# EAGLE library part MPU9150_BREAKOUT (library freBotLib)
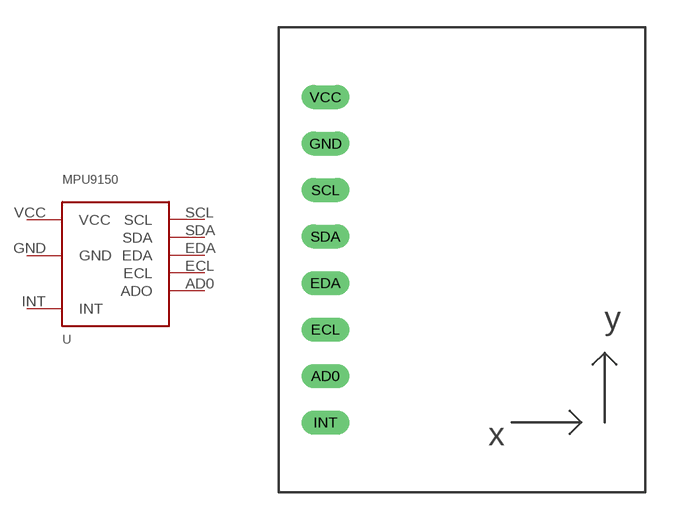
[diagram p0: symbol with the pads of MPU9150_BREAKOUT; footprint MPU9150_BREAKOUT]

Designator prefix -

## MPU9150_BREAKOUT  [MPU9150_BREAKOUT]
AD0  ADO
ECL  ECL
EDA  EDA
GND  GND
INT  INT
SCL  SCL
SDA  SDA
VCC  VCC

## Footprint MPU9150_BREAKOUT (pad centres in mm)
drill 0.813 long: AD0 2.54,6.35; ECL 2.54,8.89; EDA 2.54,11.43; GND 2.54,19.05; INT 2.54,3.81; SCL 2.54,16.51; SDA 2.54,13.97; VCC 2.54,21.59